# EAGLE library part MKE02Z16LVC (library parts)
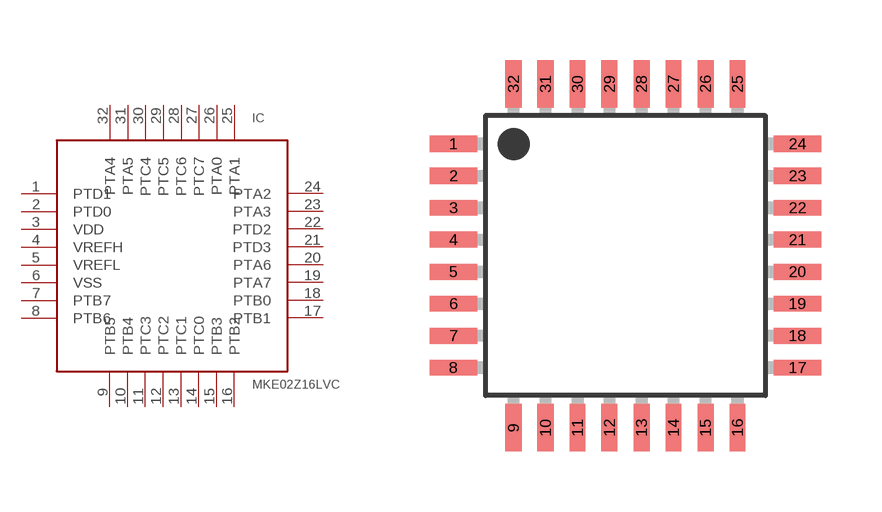
[diagram p11: symbol with the pads of LQFP32-7X7; footprint LQFP32-7X7]

Designator prefix IC

## MKE02Z16LVC  [LQFP32-7X7]
1  PTD1
2  PTD0
3  VDD
4  VREFH
5  VREFL
6  VSS
7  PTB7
8  PTB6
9  PTB5
10  PTB4
11  PTC3
12  PTC2
13  PTC1
14  PTC0
15  PTB3
16  PTB2
17  PTB1
18  PTB0
19  PTA7
20  PTA6
21  PTD3
22  PTD2
23  PTA3
24  PTA2
25  PTA1
26  PTA0
27  PTC7
28  PTC6
29  PTC5
30  PTC4
31  PTA5
32  PTA4

## Footprint LQFP32-7X7 (pad centres in mm)
LQFP-32 package 7x7 mm case, 0.8 mm lead pitch Sourced: Data sheet <http://www.st.com/stonline/products/literature/ds/14771/stm8s105c4.pdf>
smd 1.2 x 0.4: 1 -4.3,2.8; 2 -4.3,2; 3 -4.3,1.2; 4 -4.3,0.4; 5 -4.3,-0.4; 6 -4.3,-1.2; 7 -4.3,-2; 8 -4.3,-2.8; 17 4.3,-2.8; 18 4.3,-2; 19 4.3,-1.2; 20 4.3,-0.4; 21 4.3,0.4; 22 4.3,1.2; 23 4.3,2; 24 4.3,2.8
smd 0.4 x 1.2: 9 -2.8,-4.3; 10 -2,-4.3; 11 -1.2,-4.3; 12 -0.4,-4.3; 13 0.4,-4.3; 14 1.2,-4.3; 15 2,-4.3; 16 2.8,-4.3; 25 2.8,4.3; 26 2,4.3; 27 1.2,4.3; 28 0.4,4.3; 29 -0.4,4.3; 30 -1.2,4.3; 31 -2,4.3; 32 -2.8,4.3